# Altium schematic symbol library Triode.SchLib: 11 symbols
Pins are listed as number, name and electrical type; pins without a type are passive.

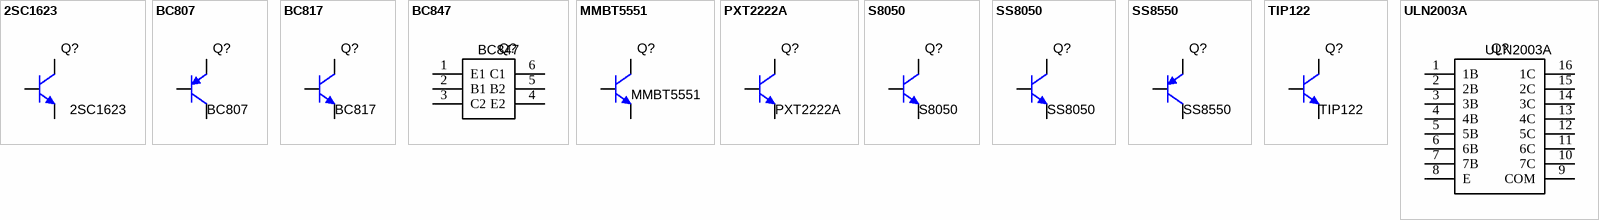
[diagram p0: symbols 2SC1623 to ULN2003A]

## 2SC1623
designator Q?  Global part number: 2SC1623
Triode; Manufacturer: CJ; Channel: N; Mount type: SMT; Size: SOT23
footprint SOT23
pins: 1 B, 2 C, 3 E
1 alternate drawing of the same symbol

## BC807
designator Q?  Global part number: BC807
Triode; Manufacturer: NXP Semiconductors N.V.; Channel: P; Mount type: SMT; Size: SOT23
footprint SOT23
pins: 1 B, 2 C, 3 E
1 alternate drawing of the same symbol

## BC817
designator Q?  Global part number: BC817
Triode; Manufacturer: NXP Semiconductors N.V.; Channel: N; Mount type: SMT; Size: SOT23
footprint SOT23
pins: 1 B, 2 C, 3 E
1 alternate drawing of the same symbol

## BC847
designator Q?  Global part number: BC847
Triode; Manufacturer: NXP Semiconductors N.V.; Channel: N; Mount type: SMT; Size: SOT23-6
footprint SOT23-6
pins: 1 E1, 2 B1, 3 C2, 4 E2, 5 B2, 6 C1
1 alternate drawing of the same symbol

## MMBT5551
designator Q?  Global part number: MMBT5551
Triode; Manufacturer: CJ; Channel: N; Mount type: SMT; Size: SOT23
footprint SOT23
pins: 1 B, 2 C, 3 E
1 alternate drawing of the same symbol

## PXT2222A
designator Q?  Global part number: PXT2222A
Triode; Manufacturer: CJ; Channel: N; Mount type: SMT; Size: SOT-89
footprint SOT-89
pins: 1 B, 2 C, 3 E
1 alternate drawing of the same symbol

## S8050
designator Q?  Global part number: S8050
Triode; Manufacturer: CJ; Channel: N; Mount type: SMT; Size: SOT23
footprint SOT23
pins: 1 B, 2 C, 3 E
1 alternate drawing of the same symbol

## SS8050
designator Q?  Global part number: SS8050
Triode; Manufacturer: CJ; Channel: N; Mount type: SMT; Size: SOT23
footprint SOT23
pins: 1 B, 2 C, 3 E
1 alternate drawing of the same symbol

## SS8550
designator Q?  Global part number: SS8550
Triode; Manufacturer: CJ; Channel: P; Mount type: SMT; Size: SOT23
footprint SOT23
pins: 1 B, 2 C, 3 E
1 alternate drawing of the same symbol

## TIP122
designator Q?  Global part number: TIP122
Darlington; Manufacturer: ST; Channel: N; Mount type: AI; Size: TO220-3
footprint TO-220-3
pins: 1 B, 2 C, 3 E
1 alternate drawing of the same symbol

## ULN2003A
designator Q?  Global part number: ULN2003A
Darlington; Manufacturer: Texas Instruments; Channel: N; Mount type: SMT; Size: SOIC-16
footprint SOIC-16
pins: 1 1B, 2 2B, 3 3B, 4 4B, 5 5B, 6 6B, 7 7B, 8 E, 9 COM, 10 7C, 11 6C, 12 5C, 13 4C, 14 3C, 15 2C, 16 1C
1 alternate drawing of the same symbol